# Altium schematic symbol library TPD4E004DRYR.SchLib: 1 symbol
Pins are listed as number, name and electrical type; pins without a type are passive.

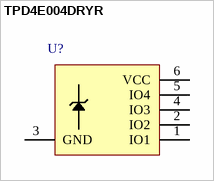
[diagram p0: symbol TPD4E004DRYR]

## TPD4E004DRYR
designator U?
pins: 1 IO1, 2 IO2, 3 GND, 4 IO3, 5 IO4, 6 VCC